# Altium footprint library RJ45- Amphenol, RJHSE-x38x-A1.PcbLib: 1 footprints
Each footprint in its own frame and in the unit in brackets; x right, y up, seen from the top. Pads: shape width x height; smd on the part's side, far side on the other; paste and mask are expansions set on the pad; w line width, h text height; cw(c..) or ccw(c..) is an arc to the next point about the centre after c.
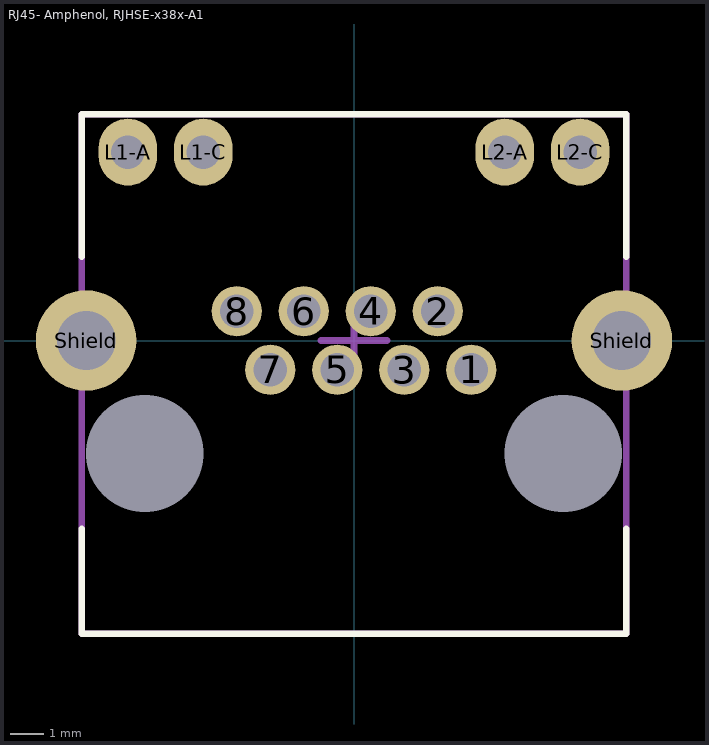
[diagram p0: the footprint, top view; thin cyan lines are the x and y axes]

## RJ45- Amphenol, RJHSE-x38x-A1 [mil] "RJ45- Amphenol, RJHSE-x38x-A1"
height 530
pads (16):
  round 60 hole 40 mask+1.97: 1(140,-35) 2(100,35) 3(60,-35) 4(20,35) 5(-20,-35) 6(-60,35) 7(-100,-35) 8(-140,35)
  round 0 hole 140 unplated mask+1.97: hole-left(-250,-135) Hole-right(250,-135)
  oval 70x80 hole 40 mask+1.97: L1-A(-270,225) L1-C(-180,225) L2-A(180,225) L2-C(270,225)
  round 120 hole 70 mask+1.97: Shield(-320,0) Shield(320,0)
Top Overlay:
  lines w7.87: -325,-225 -325,-350 325,-350 325,-225 ; -325,100 -325,270 325,270 325,100
Top Assembly:
  lines w7.87: -325,-350 -325,-128.15 -325,270 325,270 325,-128.15 325,-350 -325,-350
Top Designator:
  text ".Designator" at -155,-300.2 h78.74
Top Component Center:
  lines w7.87: -39.37,0 39.37,0 ; 0,-39.37 0,39.37
3D body "RJ45 - Amphenol, RJHSE-x38x-A1.step": height 581.99, standoff -159.91, extent -331.13,-359.97 331.48,277.95